# EAGLE library part BQ24392 (library EXCISS)
BQ24392 SPST USB 2.0 High-Speed Switch With Battery Charging Detection Links Datasheet <http://www.ti.com/lit/gpn/bq24392> Product website <http://www.ti.com/product/bq24392>
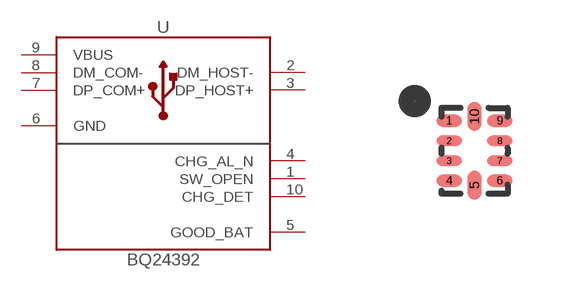
[diagram p17: symbol with the pads of R-PUQFN-N10; footprint R-PUQFN-N10]

Designator prefix U

## BQ24392  [R-PUQFN-N10]
1  SW_OPEN  out
2  DM_HOST-
3  DP_HOST+
4  CHG_AL_N  out
5  GOOD_BAT  in
6  GND  pwr
7  DP_COM+
8  DM_COM-
9  VBUS  pwr
10  CHG_DET  out

## Footprint R-PUQFN-N10 (pad centres in mm)
smd 0.64 x 0.3: 1 -0.635,0.75; 4 -0.635,-0.75; 6 0.635,-0.75; 9 0.635,0.75
smd 0.64 x 0.25: 2 -0.635,0.25; 3 -0.635,-0.25; 7 0.635,-0.25; 8 0.635,0.25
smd 0.35 x 0.72: 5 0,-0.86; 10 0,0.86